# Altium footprint library Heater.PcbLib: 31 footprints (part 2 of 2)
Each footprint in its own frame and in the unit in brackets; x right, y up, seen from the top. Pads: shape width x height; smd on the part's side, far side on the other; paste and mask are expansions set on the pad; w line width, h text height; cw(c..) or ccw(c..) is an arc to the next point about the centre after c.
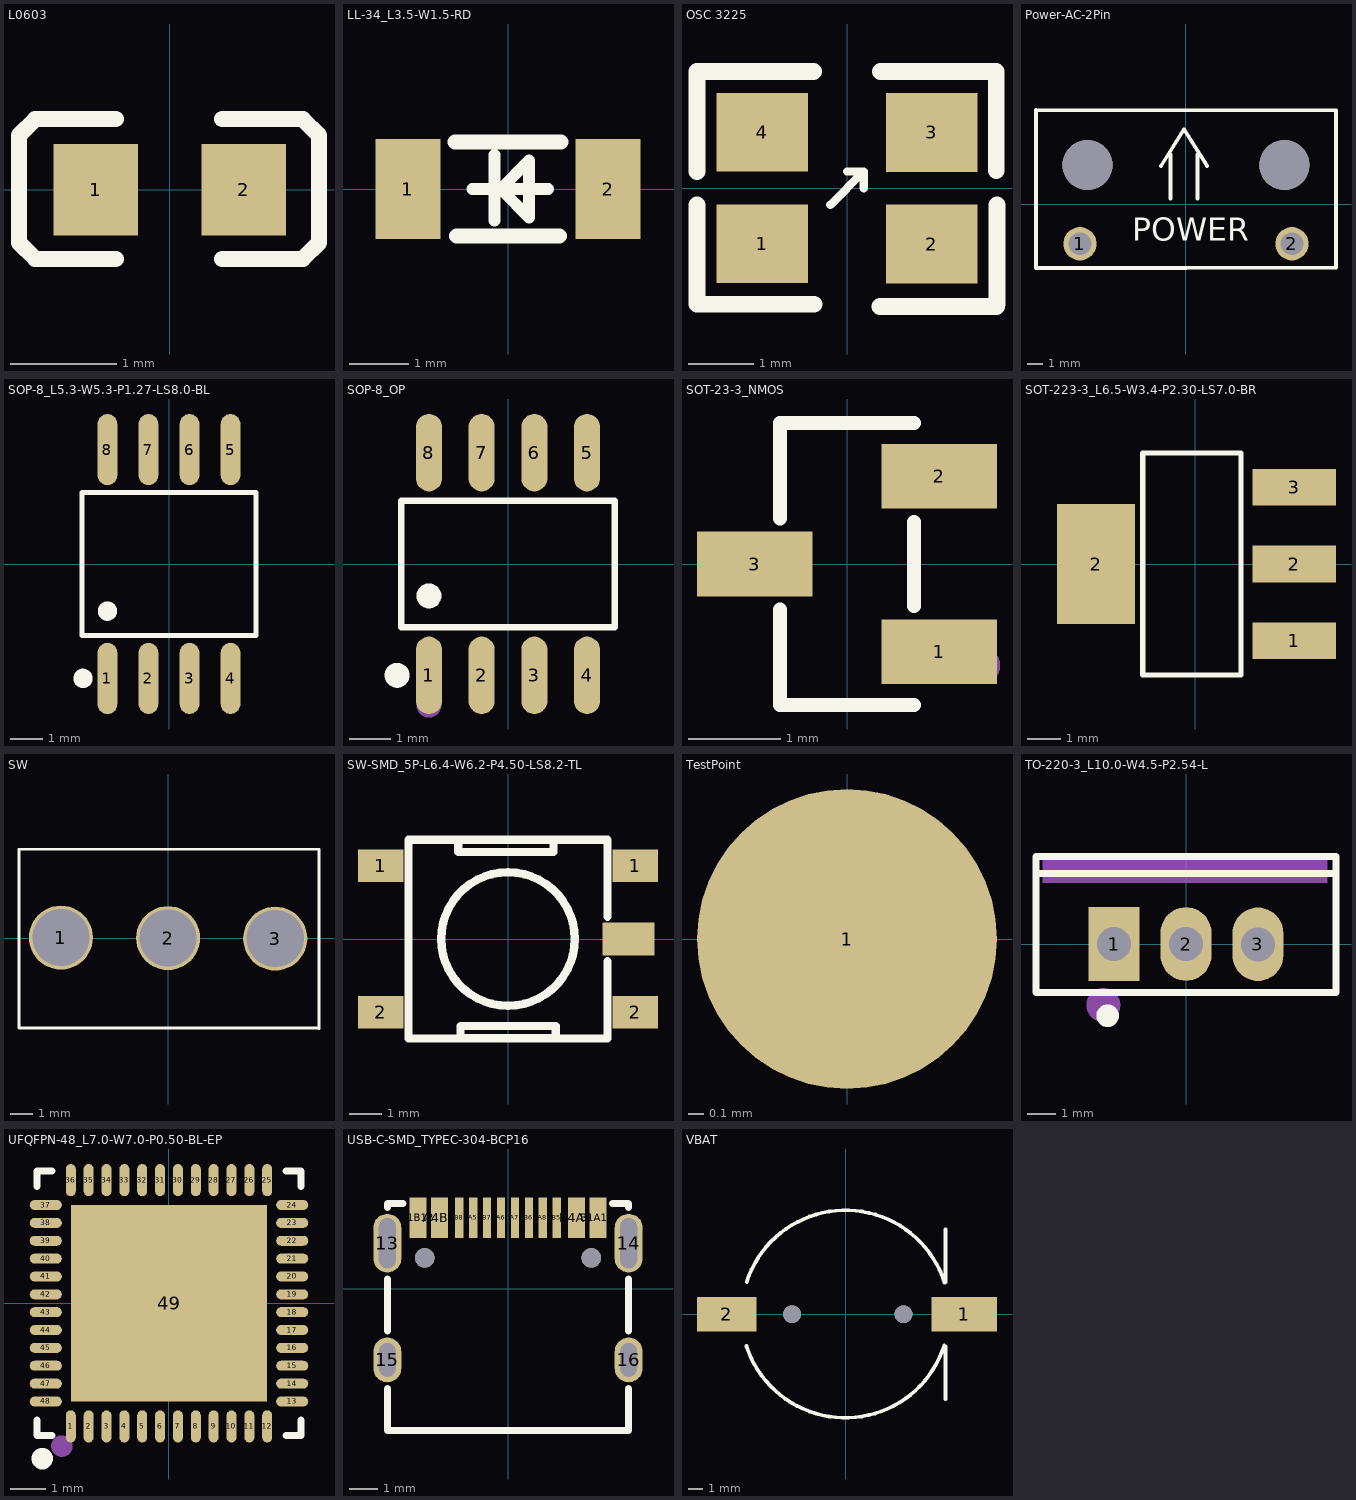
[diagram p1: the footprints below, top view; thin cyan lines are the x and y axes]

## L0603 [mm]
pads (2):
  rect 0.8x0.864 smd: 1(-0.7,0) 2(0.7,0)
Top Overlay:
  lines w0.152: -0.51,-0.651 -1.272,-0.651 -1.424,-0.499 -1.424,0.517 -1.272,0.67 -0.51,0.67 ; 0.496,-0.651 1.258,-0.651 1.411,-0.499 1.411,0.517 1.258,0.67 0.496,0.67
Top Paste:
  region: -0.252,0.143 -0.252,-0.134 -0.526,-0.427 -1.029,-0.427 -1.093,-0.363 -1.093,0.373 -1.029,0.437 -0.526,0.437
  region: 0.264,0.154 0.264,-0.122 0.538,-0.416 1.042,-0.416 1.106,-0.352 1.106,0.384 1.042,0.448 0.538,0.448

## LL-34_L3.5-W1.5-RD [mm]
pads (2):
  rect 1.1x1.7 smd: 1(-1.7,0) 2(1.7,0)
Top Overlay:
  lines w0.2: -0.61,0 0.686,0 ; -0.229,-0.533 -0.229,0.584 ; -0.127,0 0.356,0.483 0.356,-0.483 -0.102,-0.025
  lines w0.254: -0.9,0.8 0.9,0.8 ; -0.878,-0.8 0.878,-0.8
Mechanical 15:
  region: -1.365,-0.096 -2.026,-0.096 -2.026,0.082 -1.365,0.082
  region: 2.035,-0.096 1.374,-0.096 1.374,0.082 2.035,0.082
  region: 1.604,-0.335 1.604,0.326 1.782,0.326 1.782,-0.335

## OSC 3225 [mm]
pads (4):
  rect 1.4x1.2 smd mask+0.102: 1(-1.291,-0.848) 2(1.291,-0.852) 3(1.291,0.848) 4(-1.291,0.852)
Top Overlay:
  lines w0.127: -0.254,-0.254 0.254,0.254 ; 0,0.254 0.254,0.254 ; 0.254,0 0.254,0.254
  lines w0.254: -2.286,-1.77 -2.286,-0.254 ; -2.286,0.254 -2.286,1.778 -0.508,1.778 ; -2.278,-1.77 -0.5,-1.77 ; 0.503,-1.804 2.281,-1.804 ; 0.508,1.778 2.273,1.778 2.273,0.267 ; 2.286,-1.77 2.286,-0.254

## Power-AC-2Pin [mm]
pads (4):
  round 2.2 hole 1.5: 1(-7,-2.6) 2(7,-2.6)
  round 3.3 hole 3.3 unplated: ""(-6.5,2.6) ""(6.5,2.6)
Top Overlay:
  lines w0.254: -1.651,2.54 -0.127,4.953 1.397,2.54 ; -1.016,0.381 -1.016,3.302 ; -0.038,-4.183 9.908,-4.183 9.908,6.201 -9.9,6.223 -9.9,-4.191 0,-4.191 ; 0.762,0.381 0.762,3.302
  text "POWER" at -3.556,-2.413 h1.52

## SOP-8_L5.3-W5.3-P1.27-LS8.0-BL [mm]
pads (8):
  oval 0.609x2.204 smd: 1(-1.905,-3.542) 2(-0.635,-3.542) 3(0.635,-3.542) 4(1.905,-3.542) 5(1.905,3.542) 6(0.635,3.542) 7(-0.635,3.542) 8(-1.905,3.542)
Top Overlay:
  circle w0.3: c-1.905,-1.459 r0.15
  circle w0.3: c-2.662,-3.542 r0.15
  lines w0.152: -2.691,-2.211 -2.691,2.211 2.691,2.211 2.691,-2.211 -2.691,-2.211
Mechanical 15:
  circle w0.3: c-1.905,-4.35 r0.15

## SOP-8_OP [mm]
pads (8):
  oval 0.63x1.865 smd: 1(-1.905,-2.682) 2(-0.635,-2.682) 3(0.635,-2.682) 4(1.905,-2.682) 5(1.905,2.682) 6(0.635,2.682) 7(-0.635,2.682) 8(-1.905,2.682)
Top Overlay:
  circle w0.3: c-1.905,-0.769 r0.15
  circle w0.3: c-2.672,-2.682 r0.15
  lines w0.152: -2.576,-1.521 -2.576,1.521 2.576,1.521 2.576,-1.521 -2.576,-1.521
Mechanical 15:
  circle w0.3: c-1.905,-3.4 r0.15

## SOT-23-3_NMOS [mm]
pads (3):
  rect 1.25x0.7 smd: 1(1,-0.95) 2(1,0.95) 3(-1,0)
Top Overlay:
  lines w0.152: -0.726,-0.495 -0.726,-1.526 0.726,-1.526 ; -0.726,0.495 -0.726,1.526 0.726,1.526 ; 0.726,-0.455 0.726,0.455
Mechanical 15:
  circle w0.2: c1.46,-1.1 r0.1

## SOT-223-3_L6.5-W3.4-P2.30-LS7.0-BR [mm]
pads (4):
  rect 2.5x1.1 smd: 1(2.97,-2.3) 2(2.97,0) 3(2.97,2.3)
  rect 2.34x3.6 smd: 2(-2.97,0)
Top Overlay:
  lines w0.152: -1.571,-3.326 1.371,-3.326 1.371,3.326 -1.571,3.326 -1.571,-3.326

## SW [mm]
pads (3):
  round 2.8 hole 2.5: 1(-4.687,0.021) 2(0,0) 3(4.687,-0.021)
Top Overlay:
  lines w0.127: -6.517,-3.937 6.596,-3.937 ; -6.517,-3.9 -6.517,3.884 ; -6.477,3.884 6.6,3.884 6.6,-3.963

## SW-SMD_5P-L6.4-W6.2-P4.50-LS8.2-TL [mm]
pads (5):
  rect 1.4x1 smd: 1(-3.9,2.25) 1(3.9,2.25) 2(-3.9,-2.25) 2(3.9,-2.25)
  rect 1.6x1 smd: ""(3.7,0)
Top Overlay:
  circle w0.254: c0,0 r2.048
  lines w0.254: 3.048,-0.681 3.048,-3.048 -3.048,-3.048 -3.048,3.048 3.048,3.048 3.048,0.681 ; -1.524,2.667 -1.524,3.048 1.397,3.048 1.397,2.667 -1.524,2.667 ; -1.459,-3.048 -1.459,-2.667 1.462,-2.667 1.462,-3.048 -1.459,-3.048
Mechanical 15:
  circle w0.4: c-4.043,2.232 r0.2

## TestPoint [mm]
pads (1):
  round 2 smd: 1(0,0)

## TO-220-3_L10.0-W4.5-P2.54-L [mm]
pads (3):
  rect 1.8x2.6 hole 1.2: 1(-2.54,0.005)
  oval 1.8x2.6 hole 1.2: 2(0,0.005) 3(2.54,-0.005)
Top Overlay:
  lines w0.254: -5.3,2.495 5.3,2.495 ; -5.301,-1.704 5.301,-1.704 5.301,3.094 -5.301,3.094 -5.301,3.089 -5.301,-1.704
  lines w0.4: -2.77,-2.33 ccw(c-2.769,-2.53) -2.768,-2.33
Mechanical 15:
  circle w0.6: c-2.921,-2.154 r0.3
  region: -5.06,3.01 -5.06,2.17 4.99,2.17 4.99,3.01

## UFQFPN-48_L7.0-W7.0-P0.50-BL-EP [mm]
pads (49):
  oval 0.28x0.9 smd: 1(-2.751,-3.449) 2(-2.25,-3.449) 3(-1.75,-3.449) 4(-1.25,-3.449) 5(-0.749,-3.449) 6(-0.249,-3.449) 7(0.249,-3.449) 8(0.749,-3.449) 9(1.25,-3.449) 10(1.75,-3.449) 11(2.251,-3.449) 12(2.751,-3.449) 25(2.751,3.449) 26(2.251,3.449) 27(1.75,3.449) 28(1.25,3.449) 29(0.749,3.449) 30(0.249,3.449) 31(-0.249,3.449) 32(-0.749,3.449) 33(-1.25,3.449) 34(-1.75,3.449) 35(-2.25,3.449) 36(-2.751,3.449)
  oval 0.9x0.28 smd: 13(3.449,-2.751) 14(3.449,-2.25) 15(3.449,-1.75) 16(3.449,-1.25) 17(3.449,-0.749) 18(3.449,-0.249) 19(3.449,0.249) 20(3.449,0.749) 21(3.449,1.25) 22(3.449,1.75) 23(3.449,2.25) 24(3.449,2.751) 37(-3.449,2.751) 38(-3.449,2.25) 39(-3.449,1.75) 40(-3.449,1.25) 41(-3.449,0.749) 42(-3.449,0.249) 43(-3.449,-0.249) 44(-3.449,-0.749) 45(-3.449,-1.25) 46(-3.449,-1.75) 47(-3.449,-2.25) 48(-3.449,-2.751)
  rect 5.5x5.5 smd: 49(0,0)
Top Overlay:
  lines w0.2: -3.7,-3.275 -3.7,-3.7 -3.275,-3.7 ; -3.7,3.275 -3.7,3.7 -3.275,3.7 ; 3.275,-3.7 3.7,-3.7 3.7,-3.275 ; 3.275,3.7 3.7,3.7 3.7,3.275
  lines w0.3: -3.551,-4.201 ccw(c-3.55,-4.351) -3.548,-4.201
Mechanical 15:
  circle w0.3: c-3,-4 r0.15

## USB-C-SMD_TYPEC-304-BCP16 [mm]
pads (18):
  oval 1x2.1 hole 0.6 slot 1.8 at 90 deg: 13(-4.32,1.633) 14(4.32,1.633)
  oval 1x1.6 hole 0.6 slot 1.2 at 90 deg: 15(-4.32,-2.547) 16(4.32,-2.547)
  rect 0.6x1.45 smd: A1B12(-3.225,2.547) A4B9(-2.45,2.547) B1A12(3.22,2.547) B4A9(2.45,2.547)
  rect 0.3x1.45 smd: A5(-1.25,2.547) A6(-0.25,2.547) A7(0.25,2.547) A8(1.25,2.547) B5(1.75,2.547) B6(0.75,2.547) B7(-0.75,2.547) B8(-1.75,2.547)
  round 0.7 hole 0.7 unplated: ""(-2.98,1.102) ""(2.98,1.102)
Top Overlay:
  lines w0.254: -4.318,-3.579 -4.318,-5.08 4.318,-5.08 4.318,-3.579 ; -4.318,-1.516 -4.318,0.351 ; -4.318,2.914 -4.318,3.048 -3.756,3.048 ; 3.751,3.048 4.318,3.048 4.318,2.914 ; 4.318,-1.516 4.318,0.351
3D body "1.step": height 3.26, standoff -1, extent -4.475,-4.953 4.475,2.797

## VBAT [mm]
pads (4):
  rect 4.4x2.3 smd mask+0.102: 1(8,0)
  rect 4x2.3 smd mask+0.102: 2(-8,0)
  round 1.2 hole 1.2 unplated: ""(-3.6,0) ""(3.9,0)
Top Overlay:
  lines w0.254: -6.673,-2.142 ccw(c-0.017,0.025) 6.648,-2.117 ; -6.656,2.167 cw(c0,0) 6.664,2.142 ; 6.731,-5.715 6.731,-2.159 ; 6.731,2.159 6.731,5.715